# Altium schematic symbol library wafer-scale-psd.SCHLIB: 84 symbols (part 2 of 2)
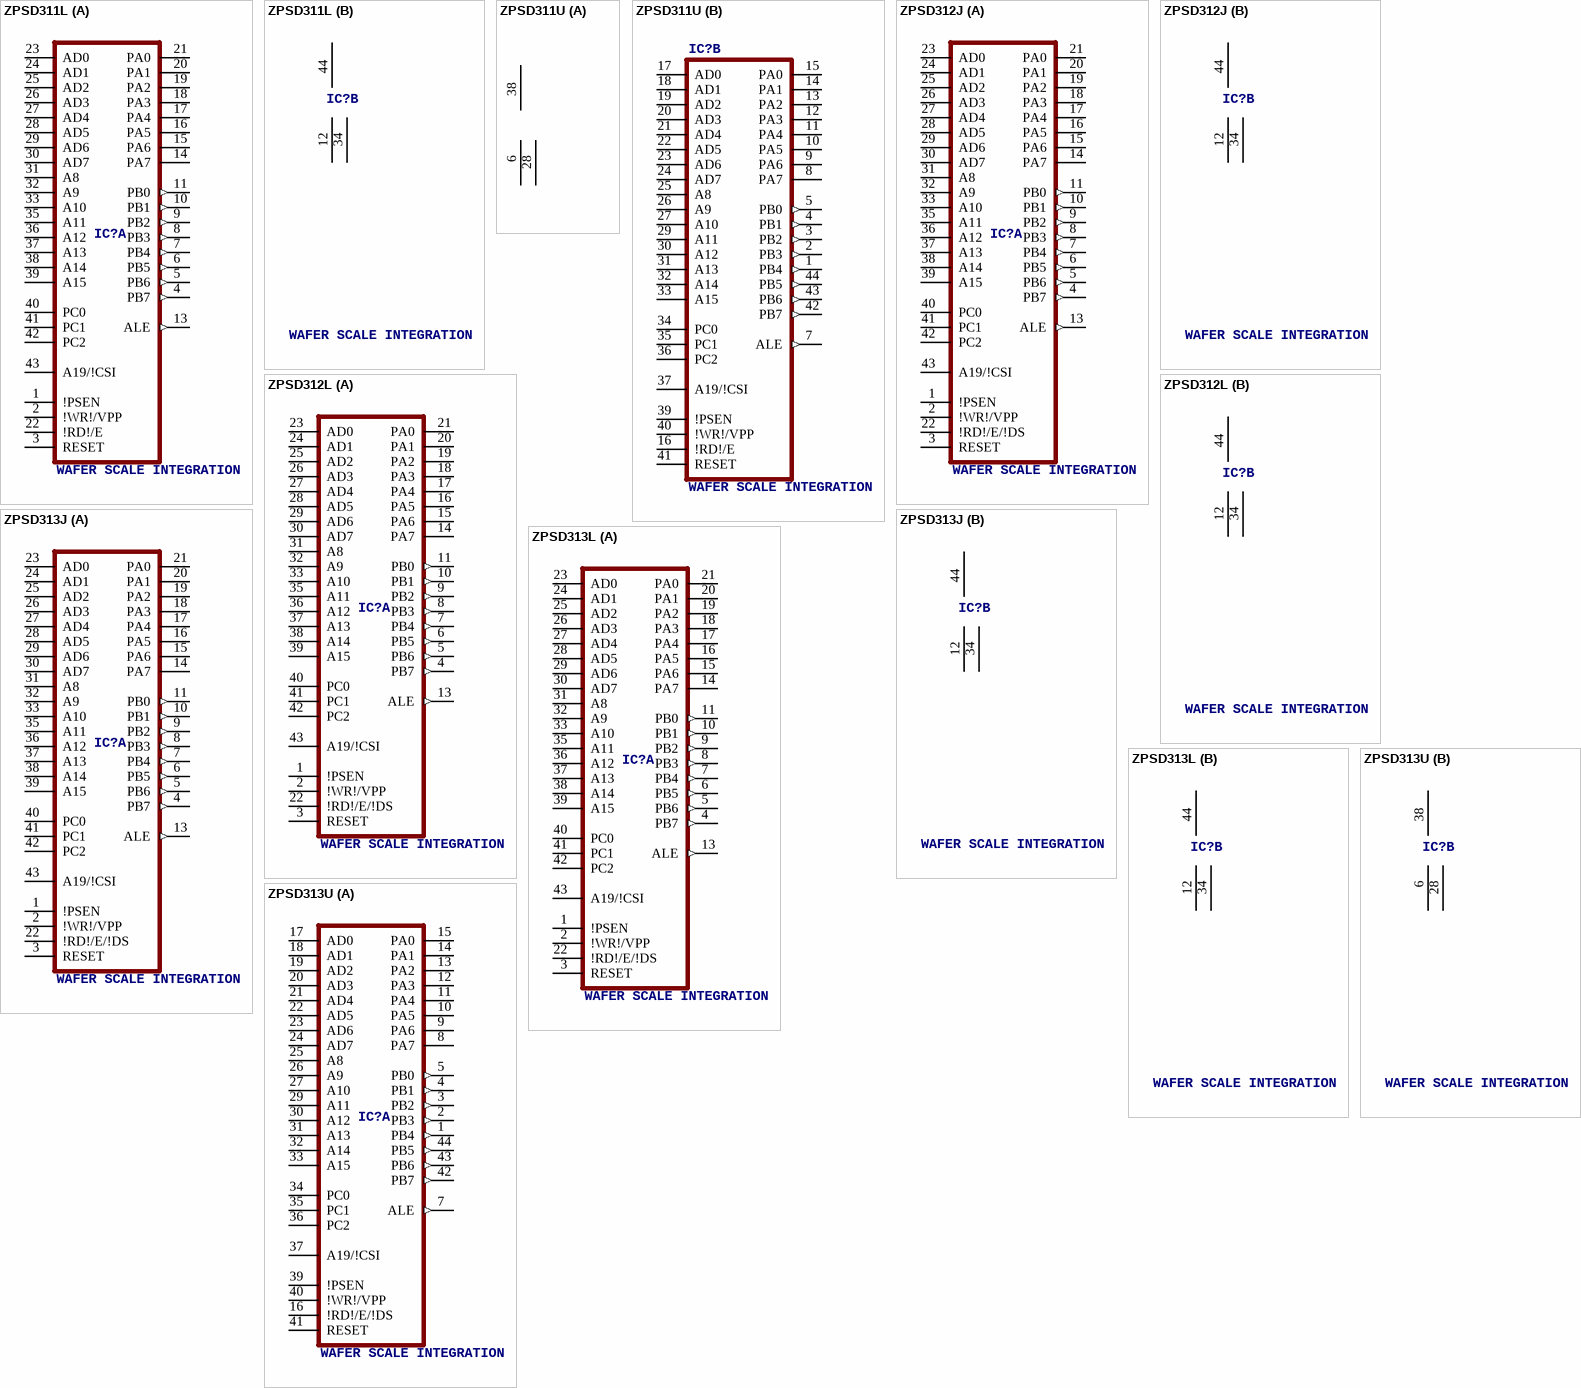
[diagram p10: symbols ZPSD311L to ZPSD313U]

## ZPSD313J
designator IC?, comment WAFER SCALE INTEGRATION
OC_FARNELL: unknown; OC_NEWARK: unknown
footprint PLDCC44
part A pins: 1 !PSEN, 2 !WR!/VPP, 3 RESET, 4 PB7 (out), 5 PB6 (out), 6 PB5 (out), 7 PB4 (out), 8 PB3 (out), 9 PB2 (out), 10 PB1 (out), 11 PB0 (out), 13 ALE (out), 14 PA7, 15 PA6, 16 PA5, 17 PA4, 18 PA3, 19 PA2, 20 PA1, 21 PA0, 22 !RD!/E/!DS, 23 AD0, 24 AD1, 25 AD2, 26 AD3, 27 AD4, 28 AD5, 29 AD6, 30 AD7, 31 A8, 32 A9, 33 A10, 35 A11, 36 A12, 37 A13, 38 A14, 39 A15, 40 PC0, 41 PC1, 42 PC2, 43 A19/!CSI
part B pins: 12 GND (power), 34 GND@1 (power), 44 VCC (power)

## ZPSD313L
designator IC?, comment WAFER SCALE INTEGRATION
OC_FARNELL: unknown; OC_NEWARK: unknown
footprint CLDCC44
part A pins: 1 !PSEN, 2 !WR!/VPP, 3 RESET, 4 PB7 (out), 5 PB6 (out), 6 PB5 (out), 7 PB4 (out), 8 PB3 (out), 9 PB2 (out), 10 PB1 (out), 11 PB0 (out), 13 ALE (out), 14 PA7, 15 PA6, 16 PA5, 17 PA4, 18 PA3, 19 PA2, 20 PA1, 21 PA0, 22 !RD!/E/!DS, 23 AD0, 24 AD1, 25 AD2, 26 AD3, 27 AD4, 28 AD5, 29 AD6, 30 AD7, 31 A8, 32 A9, 33 A10, 35 A11, 36 A12, 37 A13, 38 A14, 39 A15, 40 PC0, 41 PC1, 42 PC2, 43 A19/!CSI
part B pins: 12 GND (power), 34 GND@1 (power), 44 VCC (power)

## ZPSD313U
designator IC?, comment WAFER SCALE INTEGRATION
OC_FARNELL: unknown; OC_NEWARK: unknown
footprint TQFP44
part A pins: 1 PB4 (out), 2 PB3 (out), 3 PB2 (out), 4 PB1 (out), 5 PB0 (out), 7 ALE (out), 8 PA7, 9 PA6, 10 PA5, 11 PA4, 12 PA3, 13 PA2, 14 PA1, 15 PA0, 16 !RD!/E/!DS, 17 AD0, 18 AD1, 19 AD2, 20 AD3, 21 AD4, 22 AD5, 23 AD6, 24 AD7, 25 A8, 26 A9, 27 A10, 29 A11, 30 A12, 31 A13, 32 A14, 33 A15, 34 PC0, 35 PC1, 36 PC2, 37 A19/!CSI, 39 !PSEN, 40 !WR!/VPP, 41 RESET, 42 PB7 (out), 43 PB6 (out), 44 PB5 (out)
part B pins: 6 GND (power), 28 GND@1 (power), 38 VCC (power)